# Altium footprint library 0732512120.PcbLib: 1 footprints
Each footprint in its own frame and in the unit in brackets; x right, y up, seen from the top. Pads: shape width x height; smd on the part's side, far side on the other; paste and mask are expansions set on the pad; w line width, h text height; cw(c..) or ccw(c..) is an arc to the next point about the centre after c.
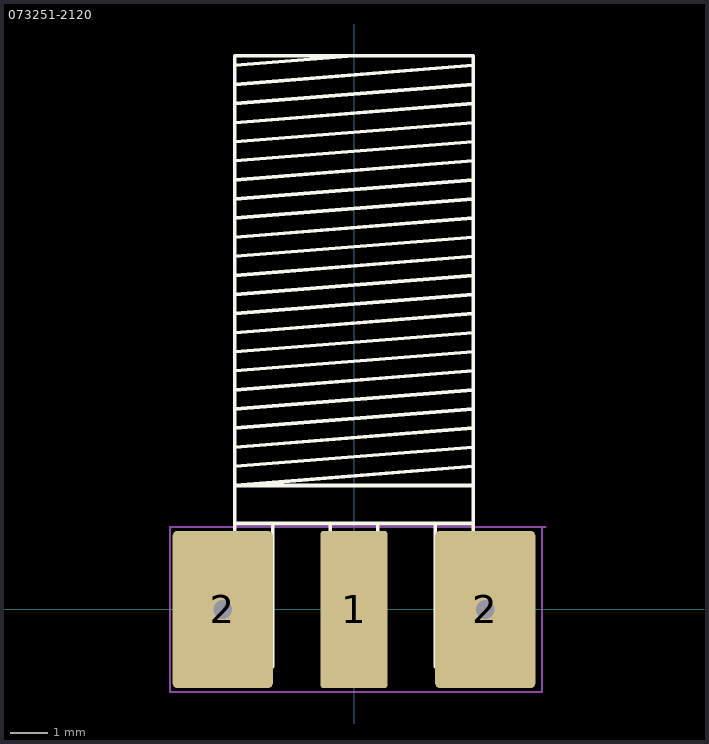
[diagram p0: the footprint, top view; thin cyan lines are the x and y axes]

## 073251-2120 [mm] "CONN SMA JACK EDGE"
height 6.35
pads (3):
  rrect10% 1.78x4.19 smd paste-5: 1(0,0)
  rrect10% 2.665x4.19 hole 0.5: 2(-3.492,0) 2(3.492,0)
Top Overlay:
  lines w0.1: -3.175,3.81 3.175,4.318 ; -3.175,4.318 3.175,4.826 ; -3.175,4.826 3.175,5.334 ; -3.175,5.334 3.175,5.842 ; -3.175,5.842 3.175,6.35 ; -3.175,6.35 3.175,6.858 ; -3.175,6.858 3.175,7.366 ; -3.175,7.366 3.175,7.874 ; -3.175,7.874 3.175,8.382 ; -3.175,8.382 3.175,8.89 ; -3.175,8.89 3.175,9.398 ; -3.175,9.398 3.175,9.906 ; -3.175,9.906 3.175,10.414 ; -3.175,10.414 3.175,10.922 ; -3.175,10.922 3.175,11.43 ; -3.175,11.43 3.175,11.938 ; -3.175,11.938 3.175,12.446 ; -3.175,12.446 3.175,12.954 ; -3.175,12.954 3.175,13.462 ; -3.175,13.462 3.175,13.97 ; -3.175,13.97 3.175,14.478 ; -3.175,14.478 0,14.732 ; -2.159,2.286 -2.159,-1.524 -3.175,-1.524 -3.175,2.286 ; -0.635,2.286 -0.635,-1.524 0.635,-1.524 0.635,2.286 ; 2.159,2.286 2.159,-1.524 3.175,-1.524 3.175,14.732 -3.175,14.732 -3.175,3.302 ; 3.175,2.286 -3.175,2.286 ; 3.175,3.302 -3.175,3.302 ; 3.175,3.81 -3.175,3.302 ; -3.175,2.286 -3.175,3.302
TopPlacement:
  lines w0.05: 5,2.2 5,-2.2 -4.9,-2.2 -4.9,2.2 5.1,2.2
  lines w0.1: -0.5,0 0.5,0 ; 0,-0.5 0,0.5
3D body "User Library-sma-3.STEP": height 3.81, standoff -2.59, extent -3.2,-1.5 3.2,16.8